# Altium schematic symbol library 0603USB-142MLC.SchLib: 1 symbol
Pins are listed as number, name and electrical type; pins without a type are passive.

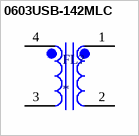
[diagram p0: symbol 0603USB-142MLC]

## 0603USB-142MLC
designator FL?
Common mode filter, USB/IEEE 1394, SMT, RoHS mon mode filter, USB/IEEE 1394, SMT, RoHS; MP: 0603USB-142MLC; Package: None; Price: None; Value: *; Availability: Unavailable
footprint FIL_0603USB-142MLC
pins: 1, 2, 3, 4